# Altium footprint library KF2EDGK.PcbLib: 86 footprints (part 4 of 6)
Each footprint in its own frame and in the unit in brackets; x right, y up, seen from the top. Pads: shape width x height; smd on the part's side, far side on the other; paste and mask are expansions set on the pad; w line width, h text height; cw(c..) or ccw(c..) is an arc to the next point about the centre after c.
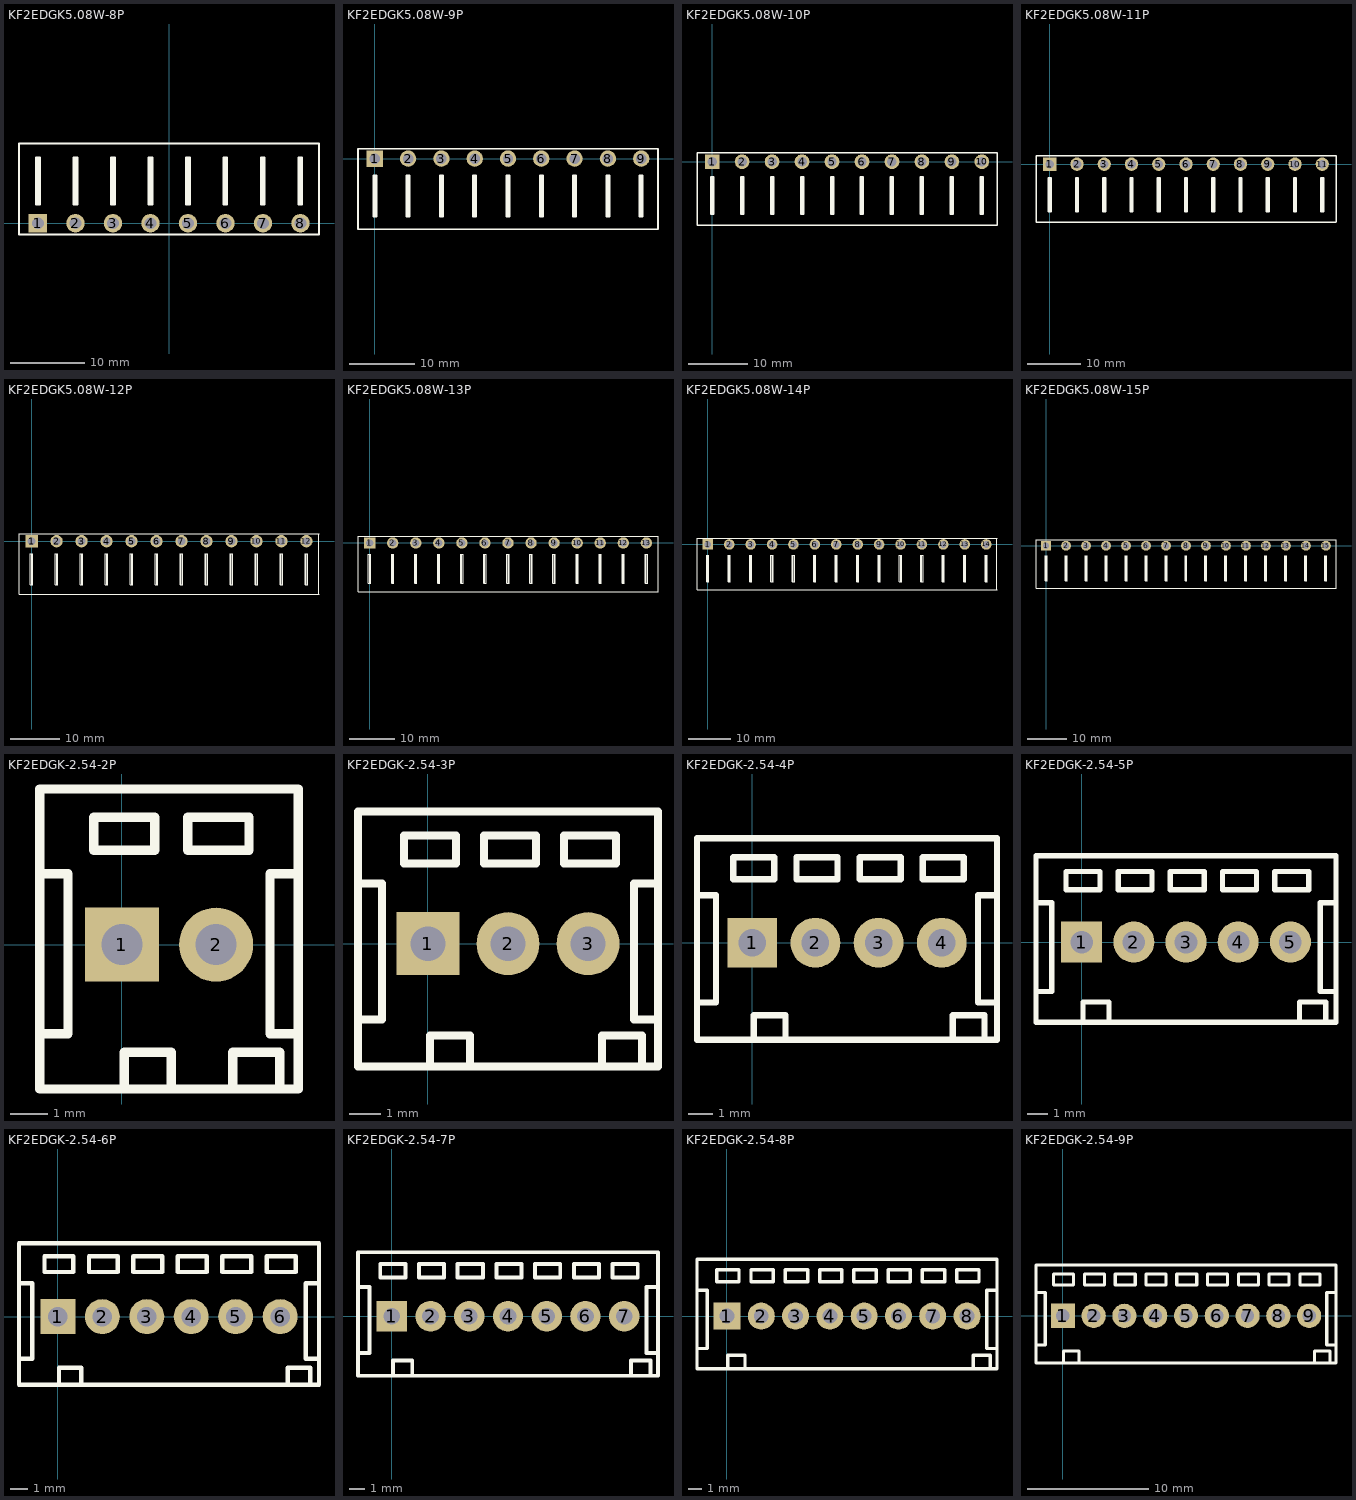
[diagram p3: the footprints below, top view; thin cyan lines are the x and y axes]

## KF2EDGK5.08W-8P [mm]
pads (8):
  rect 2.5x2.5 hole 1.6: 1(-17.78,0)
  round 2.5 hole 1.6: 2(-12.7,0) 3(-7.62,0) 4(-2.54,0) 5(2.54,0) 6(7.62,0) 7(12.7,0) 8(17.78,0)
Top Overlay:
  lines w0.254: -17.78,2.54 -17.78,8.89 ; -12.7,2.54 -12.7,8.89 ; -7.62,2.54 -7.62,8.89 ; -2.54,2.54 -2.54,8.89 ; 2.54,2.54 2.54,8.89 ; 7.62,2.54 7.62,8.89 ; 12.7,2.54 12.7,8.89 ; 17.78,2.54 17.78,8.89 ; -17.78,8.89 -17.526,8.89 -17.526,2.54 -18.034,2.54 -18.034,8.89 -17.78,8.89 ; -12.7,8.89 -12.954,8.89 -12.954,2.54 -12.446,2.54 -12.446,8.89 -12.7,8.89 ; -7.62,8.89 -7.874,8.89 -7.874,2.54 -7.366,2.54 -7.366,8.89 -7.62,8.89 ; -2.54,8.89 -2.794,8.89 -2.794,2.54 -2.286,2.54 -2.286,8.89 -2.54,8.89 ; 2.54,8.89 2.286,8.89 2.286,2.54 2.794,2.54 2.794,8.89 2.54,8.89 ; 7.62,8.89 7.366,8.89 7.366,2.54 7.874,2.54 7.874,8.89 7.62,8.89 ; 12.7,8.89 12.446,8.89 12.446,2.54 12.954,2.54 12.954,8.89 12.7,8.89 ; 17.78,8.89 17.526,8.89 17.526,2.54 18.034,2.54 18.034,8.89 17.78,8.89 ; -20.345,-1.524 20.295,-1.524 20.295,10.795 -20.345,10.795 -20.345,-1.524
3D body "KF2EDGK5.08-WI.STEP": height 8.5, standoff -3, extent 0,-0.57 5.08,10.73
3D body "KF2EDGK5.08-WI.STEP": height 8.5, standoff -3, extent 5.08,-0.57 10.16,10.73
3D body "KF2EDGK5.08-WI.STEP": height 8.5, standoff -3, extent 10.16,-0.57 15.24,10.73
3D body "KF2EDGK5.08-WI.STEP": height 8.5, standoff -3, extent 15.24,-0.57 20.32,10.73
3D body "KF2EDGK5.08-WI.STEP": height 8.5, standoff -3, extent -20.32,-0.57 -15.24,10.73
3D body "KF2EDGK5.08-WI.STEP": height 8.5, standoff -3, extent -15.24,-0.57 -10.16,10.73
3D body "KF2EDGK5.08-WI.STEP": height 8.5, standoff -3, extent -10.16,-0.57 -5.08,10.73
3D body "KF2EDGK5.08-WI.STEP": height 8.5, standoff -3, extent -5.08,-0.57 0,10.73

## KF2EDGK5.08W-9P [mm]
pads (9):
  rect 2.5x2.5 hole 1.6: 1(0,0)
  round 2.5 hole 1.6: 2(5.08,0) 3(10.16,0) 4(15.24,0) 5(20.32,0) 6(25.4,0) 7(30.48,0) 8(35.56,0) 9(40.64,0)
Top Overlay:
  lines w0.254: 0,-2.54 0,-8.89 ; 5.08,-2.54 5.08,-8.89 ; 10.16,-2.54 10.16,-8.89 ; 15.24,-2.54 15.24,-8.89 ; 20.32,-2.54 20.32,-8.89 ; 25.4,-2.54 25.4,-8.89 ; 30.48,-2.54 30.48,-8.89 ; 35.56,-2.54 35.56,-8.89 ; 40.64,-2.54 40.64,-8.89 ; 0,-8.89 -0.254,-8.89 -0.254,-2.54 0.254,-2.54 0.254,-8.89 0,-8.89 ; 5.08,-8.89 5.334,-8.89 5.334,-2.54 4.826,-2.54 4.826,-8.89 5.08,-8.89 ; 10.16,-8.89 10.414,-8.89 10.414,-2.54 9.906,-2.54 9.906,-8.89 10.16,-8.89 ; 15.24,-8.89 15.494,-8.89 15.494,-2.54 14.986,-2.54 14.986,-8.89 15.24,-8.89 ; 20.32,-8.89 20.574,-8.89 20.574,-2.54 20.066,-2.54 20.066,-8.89 20.32,-8.89 ; 25.4,-8.89 25.654,-8.89 25.654,-2.54 25.146,-2.54 25.146,-8.89 25.4,-8.89 ; 30.48,-8.89 30.734,-8.89 30.734,-2.54 30.226,-2.54 30.226,-8.89 30.48,-8.89 ; 35.56,-8.89 35.814,-8.89 35.814,-2.54 35.306,-2.54 35.306,-8.89 35.56,-8.89 ; 40.64,-8.89 40.386,-8.89 40.386,-2.54 40.894,-2.54 40.894,-8.89 40.64,-8.89 ; -2.565,-10.795 -2.565,1.524 43.205,1.524 43.205,-10.795 -2.565,-10.795
3D body "KF2EDGK5.08-WI.STEP": height 8.5, standoff -3, extent -2.54,-10.792 2.54,0.508
3D body "KF2EDGK5.08-WI.STEP": height 8.5, standoff -3, extent 2.54,-10.792 7.62,0.508
3D body "KF2EDGK5.08-WI.STEP": height 8.5, standoff -3, extent 7.62,-10.792 12.7,0.508
3D body "KF2EDGK5.08-WI.STEP": height 8.5, standoff -3, extent 22.86,-10.792 27.94,0.508
3D body "KF2EDGK5.08-WI.STEP": height 8.5, standoff -3, extent 17.78,-10.792 22.86,0.508
3D body "KF2EDGK5.08-WI.STEP": height 8.5, standoff -3, extent 12.7,-10.792 17.78,0.508
3D body "KF2EDGK5.08-WI.STEP": height 8.5, standoff -3, extent 38.1,-10.792 43.18,0.508
3D body "KF2EDGK5.08-WI.STEP": height 8.5, standoff -3, extent 33.02,-10.792 38.1,0.508
3D body "KF2EDGK5.08-WI.STEP": height 8.5, standoff -3, extent 27.94,-10.792 33.02,0.508

## KF2EDGK5.08W-10P [mm]
pads (10):
  rect 2.5x2.5 hole 1.6: 1(0,0)
  round 2.5 hole 1.6: 2(5.08,0) 3(10.16,0) 4(15.24,0) 5(20.32,0) 6(25.4,0) 7(30.48,0) 8(35.56,0) 9(40.64,0) 10(45.72,0)
Top Overlay:
  lines w0.254: 0,-2.54 0,-8.89 ; 5.08,-2.54 5.08,-8.89 ; 10.16,-2.54 10.16,-8.89 ; 15.24,-2.54 15.24,-8.89 ; 20.32,-2.54 20.32,-8.89 ; 25.4,-2.54 25.4,-8.89 ; 30.48,-2.54 30.48,-8.89 ; 35.56,-2.54 35.56,-8.89 ; 40.64,-2.54 40.64,-8.89 ; 43.185,-10.795 48.285,-10.795 48.285,1.524 43.205,1.524 -2.565,1.524 -2.565,-10.795 43.205,-10.795 ; 45.72,-2.54 45.72,-8.89 ; 0,-8.89 0.254,-8.89 0.254,-2.54 -0.254,-2.54 -0.254,-8.89 0,-8.89 ; 5.08,-8.89 4.826,-8.89 4.826,-2.54 5.334,-2.54 5.334,-8.89 5.08,-8.89 ; 10.16,-8.89 9.906,-8.89 9.906,-2.54 10.414,-2.54 10.414,-8.89 10.16,-8.89 ; 15.24,-8.89 14.986,-8.89 14.986,-2.54 15.494,-2.54 15.494,-8.89 15.24,-8.89 ; 20.32,-8.89 20.066,-8.89 20.066,-2.54 20.574,-2.54 20.574,-8.89 20.32,-8.89 ; 25.4,-8.89 25.146,-8.89 25.146,-2.54 25.654,-2.54 25.654,-8.89 25.4,-8.89 ; 30.48,-8.89 30.226,-8.89 30.226,-2.54 30.734,-2.54 30.734,-8.89 30.48,-8.89 ; 35.56,-8.89 35.306,-8.89 35.306,-2.54 35.814,-2.54 35.814,-8.89 35.56,-8.89 ; 40.64,-8.89 40.894,-8.89 40.894,-2.54 40.386,-2.54 40.386,-8.89 40.64,-8.89 ; 45.72,-8.89 45.466,-8.89 45.466,-2.54 45.974,-2.54 45.974,-8.89 45.72,-8.89
3D body "KF2EDGK5.08-WI.STEP": height 8.5, standoff -3, extent 7.62,-10.792 12.7,0.508
3D body "KF2EDGK5.08-WI.STEP": height 8.5, standoff -3, extent 2.54,-10.792 7.62,0.508
3D body "KF2EDGK5.08-WI.STEP": height 8.5, standoff -3, extent -2.54,-10.792 2.54,0.508
3D body "KF2EDGK5.08-WI.STEP": height 8.5, standoff -3, extent 22.86,-10.792 27.94,0.508
3D body "KF2EDGK5.08-WI.STEP": height 8.5, standoff -3, extent 17.78,-10.792 22.86,0.508
3D body "KF2EDGK5.08-WI.STEP": height 8.5, standoff -3, extent 12.7,-10.792 17.78,0.508
3D body "KF2EDGK5.08-WI.STEP": height 8.5, standoff -3, extent 38.1,-10.792 43.18,0.508
3D body "KF2EDGK5.08-WI.STEP": height 8.5, standoff -3, extent 33.02,-10.792 38.1,0.508
3D body "KF2EDGK5.08-WI.STEP": height 8.5, standoff -3, extent 27.94,-10.792 33.02,0.508
3D body "KF2EDGK5.08-WI.STEP": height 8.5, standoff -3, extent 43.18,-10.792 48.26,0.508

## KF2EDGK5.08W-11P [mm]
pads (11):
  rect 2.5x2.5 hole 1.6: 1(0,0)
  round 2.5 hole 1.6: 2(5.08,0) 3(10.16,0) 4(15.24,0) 5(20.32,0) 6(25.4,0) 7(30.48,0) 8(35.56,0) 9(40.64,0) 10(45.72,0) 11(50.8,0)
Top Overlay:
  lines w0.254: 0,-2.54 0,-8.89 ; 5.08,-2.54 5.08,-8.89 ; 10.16,-2.54 10.16,-8.89 ; 15.24,-2.54 15.24,-8.89 ; 20.32,-2.54 20.32,-8.89 ; 25.4,-2.54 25.4,-8.89 ; 30.48,-2.54 30.48,-8.89 ; 35.56,-2.54 35.56,-8.89 ; 40.64,-2.54 40.64,-8.89 ; 43.185,-10.795 48.285,-10.795 ; 43.205,-10.795 -2.565,-10.795 -2.565,1.524 43.205,1.524 48.285,1.524 53.365,1.524 53.365,-10.775 ; 45.72,-2.54 45.72,-8.89 ; 48.265,-10.795 53.365,-10.795 ; 50.8,-2.54 50.8,-8.89 ; 0,-8.89 -0.254,-8.89 -0.254,-2.54 0.254,-2.54 0.254,-8.89 0,-8.89 ; 5.08,-8.89 5.334,-8.89 5.334,-2.54 4.826,-2.54 4.826,-8.89 5.08,-8.89 ; 10.16,-8.89 10.414,-8.89 10.414,-2.54 9.906,-2.54 9.906,-8.89 10.16,-8.89 ; 15.24,-8.89 15.494,-8.89 15.494,-2.54 14.986,-2.54 14.986,-8.89 15.24,-8.89 ; 20.32,-8.89 20.574,-8.89 20.574,-2.54 20.066,-2.54 20.066,-8.89 20.32,-8.89 ; 25.4,-8.89 25.654,-8.89 25.654,-2.54 25.146,-2.54 25.146,-8.89 25.4,-8.89 ; 30.48,-8.89 30.734,-8.89 30.734,-2.54 30.226,-2.54 30.226,-8.89 30.48,-8.89 ; 35.56,-8.89 35.814,-8.89 35.814,-2.54 35.306,-2.54 35.306,-8.89 35.56,-8.89 ; 40.64,-8.89 40.386,-8.89 40.386,-2.54 40.894,-2.54 40.894,-8.89 40.64,-8.89 ; 45.72,-8.89 45.974,-8.89 45.974,-2.54 45.466,-2.54 45.466,-8.89 45.72,-8.89 ; 50.8,-8.89 50.546,-8.89 50.546,-2.54 51.054,-2.54 51.054,-8.89 50.8,-8.89
Mechanical 15:
  circle w0.05: c25.4,0 r0.35
  lines w0.05: 24.9,0 25.9,0 ; 25.4,-0.5 25.4,0.5
3D body "KF2EDGK5.08-WI.STEP": height 8.5, standoff -3, extent 48.26,-10.792 53.34,0.508
3D body "KF2EDGK5.08-WI.STEP": height 8.5, standoff -3, extent 43.18,-10.792 48.26,0.508
3D body "KF2EDGK5.08-WI.STEP": height 8.5, standoff -3, extent 27.94,-10.792 33.02,0.508
3D body "KF2EDGK5.08-WI.STEP": height 8.5, standoff -3, extent 33.02,-10.792 38.1,0.508
3D body "KF2EDGK5.08-WI.STEP": height 8.5, standoff -3, extent 38.1,-10.792 43.18,0.508
3D body "KF2EDGK5.08-WI.STEP": height 8.5, standoff -3, extent 12.7,-10.792 17.78,0.508
3D body "KF2EDGK5.08-WI.STEP": height 8.5, standoff -3, extent 17.78,-10.792 22.86,0.508
3D body "KF2EDGK5.08-WI.STEP": height 8.5, standoff -3, extent 22.86,-10.792 27.94,0.508
3D body "KF2EDGK5.08-WI.STEP": height 8.5, standoff -3, extent -2.54,-10.792 2.54,0.508
3D body "KF2EDGK5.08-WI.STEP": height 8.5, standoff -3, extent 2.54,-10.792 7.62,0.508
3D body "KF2EDGK5.08-WI.STEP": height 8.5, standoff -3, extent 7.62,-10.792 12.7,0.508

## KF2EDGK5.08W-12P [mm]
pads (12):
  rect 2.5x2.5 hole 1.6: 1(0,0)
  round 2.5 hole 1.6: 2(5.08,0) 3(10.16,0) 4(15.24,0) 5(20.32,0) 6(25.4,0) 7(30.48,0) 8(35.56,0) 9(40.64,0) 10(45.72,0) 11(50.8,0) 12(55.88,0)
Top Overlay:
  lines w0.254: 0,-2.54 0,-8.89 ; 5.08,-2.54 5.08,-8.89 ; 10.16,-2.54 10.16,-8.89 ; 15.24,-2.54 15.24,-8.89 ; 20.32,-2.54 20.32,-8.89 ; 25.4,-2.54 25.4,-8.89 ; 30.48,-2.54 30.48,-8.89 ; 35.56,-2.54 35.56,-8.89 ; 40.64,-2.54 40.64,-8.89 ; 43.185,-10.795 48.285,-10.795 ; 43.205,-10.795 -2.565,-10.795 -2.565,1.524 43.205,1.524 48.285,1.524 53.365,1.524 58.445,1.524 ; 45.72,-2.54 45.72,-8.89 ; 48.265,-10.795 53.365,-10.795 ; 50.8,-2.54 50.8,-8.89 ; 53.345,-10.795 58.445,-10.795 ; 55.88,-2.54 55.88,-8.89 ; 58.42,-10.8 58.42,1.524 ; 0,-8.89 -0.254,-8.89 -0.254,-2.54 0.254,-2.54 0.254,-8.89 0,-8.89 ; 5.08,-8.89 5.334,-8.89 5.334,-2.54 4.826,-2.54 4.826,-8.89 5.08,-8.89 ; 10.16,-8.89 10.414,-8.89 10.414,-2.54 9.906,-2.54 9.906,-8.89 10.16,-8.89 ; 15.24,-8.89 15.494,-8.89 15.494,-2.54 14.986,-2.54 14.986,-8.89 15.24,-8.89 ; 20.32,-8.89 20.574,-8.89 20.574,-2.54 20.066,-2.54 20.066,-8.89 20.32,-8.89 ; 25.4,-8.89 25.654,-8.89 25.654,-2.54 25.146,-2.54 25.146,-8.89 25.4,-8.89 ; 30.48,-8.89 30.734,-8.89 30.734,-2.54 30.226,-2.54 30.226,-8.89 30.48,-8.89 ; 35.56,-8.89 35.814,-8.89 35.814,-2.54 35.306,-2.54 35.306,-8.89 35.56,-8.89 ; 40.64,-8.89 40.386,-8.89 40.386,-2.54 40.894,-2.54 40.894,-8.89 40.64,-8.89 ; 45.72,-8.89 45.974,-8.89 45.974,-2.54 45.466,-2.54 45.466,-8.89 45.72,-8.89 ; 50.8,-8.89 50.546,-8.89 50.546,-2.54 51.054,-2.54 51.054,-8.89 50.8,-8.89 ; 55.88,-8.89 55.626,-8.89 55.626,-2.54 56.134,-2.54 56.134,-8.89 55.88,-8.89
3D body "KF2EDGK5.08-WI.STEP": height 8.5, standoff -3, extent 53.34,-10.792 58.42,0.508
3D body "KF2EDGK5.08-WI.STEP": height 8.5, standoff -3, extent 48.26,-10.792 53.34,0.508
3D body "KF2EDGK5.08-WI.STEP": height 8.5, standoff -3, extent 43.18,-10.792 48.26,0.508
3D body "KF2EDGK5.08-WI.STEP": height 8.5, standoff -3, extent 27.94,-10.792 33.02,0.508
3D body "KF2EDGK5.08-WI.STEP": height 8.5, standoff -3, extent 33.02,-10.792 38.1,0.508
3D body "KF2EDGK5.08-WI.STEP": height 8.5, standoff -3, extent 38.1,-10.792 43.18,0.508
3D body "KF2EDGK5.08-WI.STEP": height 8.5, standoff -3, extent 12.7,-10.792 17.78,0.508
3D body "KF2EDGK5.08-WI.STEP": height 8.5, standoff -3, extent 17.78,-10.792 22.86,0.508
3D body "KF2EDGK5.08-WI.STEP": height 8.5, standoff -3, extent 22.86,-10.792 27.94,0.508
3D body "KF2EDGK5.08-WI.STEP": height 8.5, standoff -3, extent -2.54,-10.792 2.54,0.508
3D body "KF2EDGK5.08-WI.STEP": height 8.5, standoff -3, extent 2.54,-10.792 7.62,0.508
3D body "KF2EDGK5.08-WI.STEP": height 8.5, standoff -3, extent 7.62,-10.792 12.7,0.508

## KF2EDGK5.08W-13P [mm]
pads (13):
  rect 2.5x2.5 hole 1.6: 1(0,0)
  round 2.5 hole 1.6: 2(5.08,0) 3(10.16,0) 4(15.24,0) 5(20.32,0) 6(25.4,0) 7(30.48,0) 8(35.56,0) 9(40.64,0) 10(45.72,0) 11(50.8,0) 12(55.88,0) 13(60.96,0)
Top Overlay:
  lines w0.254: 0,-2.54 0,-8.89 ; 5.08,-2.54 5.08,-8.89 ; 10.16,-2.54 10.16,-8.89 ; 15.24,-2.54 15.24,-8.89 ; 20.32,-2.54 20.32,-8.89 ; 25.4,-2.54 25.4,-8.89 ; 30.48,-2.54 30.48,-8.89 ; 35.56,-2.54 35.56,-8.89 ; 40.64,-2.54 40.64,-8.89 ; 43.185,-10.795 48.285,-10.795 ; 43.205,-10.795 -2.565,-10.795 -2.565,1.524 43.205,1.524 48.285,1.524 53.365,1.524 58.445,1.524 63.525,1.524 63.525,-10.775 ; 45.72,-2.54 45.72,-8.89 ; 48.265,-10.795 53.365,-10.795 ; 50.8,-2.54 50.8,-8.89 ; 53.345,-10.795 58.445,-10.795 ; 55.88,-2.54 55.88,-8.89 ; 58.425,-10.795 63.525,-10.795 ; 60.96,-2.54 60.96,-8.89 ; 0,-8.89 0.254,-8.89 0.254,-2.54 -0.254,-2.54 -0.254,-8.89 0,-8.89 ; 5.08,-8.89 4.826,-8.89 4.826,-2.54 5.334,-2.54 5.334,-8.89 5.08,-8.89 ; 10.16,-8.89 9.906,-8.89 9.906,-2.54 10.414,-2.54 10.414,-8.89 10.16,-8.89 ; 15.24,-8.89 14.986,-8.89 14.986,-2.54 15.494,-2.54 15.494,-8.89 15.24,-8.89 ; 20.32,-8.89 20.066,-8.89 20.066,-2.54 20.574,-2.54 20.574,-8.89 20.32,-8.89 ; 25.4,-8.89 25.146,-8.89 25.146,-2.54 25.654,-2.54 25.654,-8.89 25.4,-8.89 ; 30.48,-8.89 30.226,-8.89 30.226,-2.54 30.734,-2.54 30.734,-8.89 30.48,-8.89 ; 35.56,-8.89 35.306,-8.89 35.306,-2.54 35.814,-2.54 35.814,-8.89 35.56,-8.89 ; 40.64,-8.89 40.894,-8.89 40.894,-2.54 40.386,-2.54 40.386,-8.89 40.64,-8.89 ; 45.72,-8.89 45.466,-8.89 45.466,-2.54 45.974,-2.54 45.974,-8.89 45.72,-8.89 ; 50.8,-8.89 51.054,-8.89 51.054,-2.54 50.546,-2.54 50.546,-8.89 50.8,-8.89 ; 55.88,-8.89 56.134,-8.89 56.134,-2.54 55.626,-2.54 55.626,-8.89 55.88,-8.89 ; 60.96,-8.89 61.214,-8.89 61.214,-2.54 60.706,-2.54 60.706,-8.89 60.96,-8.89
3D body "KF2EDGK5.08-WI.STEP": height 8.5, standoff -3, extent 7.62,-10.792 12.7,0.508
3D body "KF2EDGK5.08-WI.STEP": height 8.5, standoff -3, extent 2.54,-10.792 7.62,0.508
3D body "KF2EDGK5.08-WI.STEP": height 8.5, standoff -3, extent -2.54,-10.792 2.54,0.508
3D body "KF2EDGK5.08-WI.STEP": height 8.5, standoff -3, extent 22.86,-10.792 27.94,0.508
3D body "KF2EDGK5.08-WI.STEP": height 8.5, standoff -3, extent 17.78,-10.792 22.86,0.508
3D body "KF2EDGK5.08-WI.STEP": height 8.5, standoff -3, extent 12.7,-10.792 17.78,0.508
3D body "KF2EDGK5.08-WI.STEP": height 8.5, standoff -3, extent 38.1,-10.792 43.18,0.508
3D body "KF2EDGK5.08-WI.STEP": height 8.5, standoff -3, extent 33.02,-10.792 38.1,0.508
3D body "KF2EDGK5.08-WI.STEP": height 8.5, standoff -3, extent 27.94,-10.792 33.02,0.508
3D body "KF2EDGK5.08-WI.STEP": height 8.5, standoff -3, extent 43.18,-10.792 48.26,0.508
3D body "KF2EDGK5.08-WI.STEP": height 8.5, standoff -3, extent 48.26,-10.792 53.34,0.508
3D body "KF2EDGK5.08-WI.STEP": height 8.5, standoff -3, extent 58.42,-10.792 63.5,0.508
3D body "KF2EDGK5.08-WI.STEP": height 8.5, standoff -3, extent 53.34,-10.792 58.42,0.508

## KF2EDGK5.08W-14P [mm]
pads (14):
  rect 2.5x2.5 hole 1.6: 1(0,0)
  round 2.5 hole 1.6: 2(5.08,0) 3(10.16,0) 4(15.24,0) 5(20.32,0) 6(25.4,0) 7(30.48,0) 8(35.56,0) 9(40.64,0) 10(45.72,0) 11(50.8,0) 12(55.88,0) 13(60.96,0) 14(66.04,0)
Top Overlay:
  lines w0.254: 0,-2.54 0,-8.89 ; 5.08,-2.54 5.08,-8.89 ; 10.16,-2.54 10.16,-8.89 ; 15.24,-2.54 15.24,-8.89 ; 20.32,-2.54 20.32,-8.89 ; 25.4,-2.54 25.4,-8.89 ; 30.48,-2.54 30.48,-8.89 ; 35.56,-2.54 35.56,-8.89 ; 40.64,-2.54 40.64,-8.89 ; 43.185,-10.795 48.285,-10.795 ; 43.205,-10.795 -2.565,-10.795 -2.565,1.524 43.205,1.524 48.285,1.524 53.365,1.524 58.445,1.524 63.525,1.524 68.605,1.524 ; 45.72,-2.54 45.72,-8.89 ; 48.265,-10.795 53.365,-10.795 ; 50.8,-2.54 50.8,-8.89 ; 53.345,-10.795 58.445,-10.795 ; 55.88,-2.54 55.88,-8.89 ; 58.425,-10.795 63.525,-10.795 ; 60.96,-2.54 60.96,-8.89 ; 63.505,-10.795 68.605,-10.795 ; 66.04,-2.54 66.04,-8.89 ; 68.58,-10.77 68.58,1.524 ; 0,-8.89 0.254,-8.89 0.254,-2.54 -0.254,-2.54 -0.254,-8.89 0,-8.89 ; 5.08,-8.89 4.826,-8.89 4.826,-2.54 5.334,-2.54 5.334,-8.89 5.08,-8.89 ; 10.16,-8.89 9.906,-8.89 9.906,-2.54 10.414,-2.54 10.414,-8.89 10.16,-8.89 ; 15.24,-8.89 14.986,-8.89 14.986,-2.54 15.494,-2.54 15.494,-8.89 15.24,-8.89 ; 20.32,-8.89 20.066,-8.89 20.066,-2.54 20.574,-2.54 20.574,-8.89 20.32,-8.89 ; 25.4,-8.89 25.146,-8.89 25.146,-2.54 25.654,-2.54 25.654,-8.89 25.4,-8.89 ; 30.48,-8.89 30.226,-8.89 30.226,-2.54 30.734,-2.54 30.734,-8.89 30.48,-8.89 ; 35.56,-8.89 35.306,-8.89 35.306,-2.54 35.814,-2.54 35.814,-8.89 35.56,-8.89 ; 40.64,-8.89 40.894,-8.89 40.894,-2.54 40.386,-2.54 40.386,-8.89 40.64,-8.89 ; 45.72,-8.89 45.466,-8.89 45.466,-2.54 45.974,-2.54 45.974,-8.89 45.72,-8.89 ; 50.8,-8.89 51.054,-8.89 51.054,-2.54 50.546,-2.54 50.546,-8.89 50.8,-8.89 ; 55.88,-8.89 56.134,-8.89 56.134,-2.54 55.626,-2.54 55.626,-8.89 55.88,-8.89 ; 60.96,-8.89 61.214,-8.89 61.214,-2.54 60.706,-2.54 60.706,-8.89 60.96,-8.89 ; 66.04,-8.89 66.294,-8.89 66.294,-2.54 65.786,-2.54 65.786,-8.89 66.04,-8.89
3D body "KF2EDGK5.08-WI.STEP": height 8.5, standoff -3, extent 53.34,-10.792 58.42,0.508
3D body "KF2EDGK5.08-WI.STEP": height 8.5, standoff -3, extent 58.42,-10.792 63.5,0.508
3D body "KF2EDGK5.08-WI.STEP": height 8.5, standoff -3, extent 63.5,-10.792 68.58,0.508
3D body "KF2EDGK5.08-WI.STEP": height 8.5, standoff -3, extent 48.26,-10.792 53.34,0.508
3D body "KF2EDGK5.08-WI.STEP": height 8.5, standoff -3, extent 43.18,-10.792 48.26,0.508
3D body "KF2EDGK5.08-WI.STEP": height 8.5, standoff -3, extent 27.94,-10.792 33.02,0.508
3D body "KF2EDGK5.08-WI.STEP": height 8.5, standoff -3, extent 33.02,-10.792 38.1,0.508
3D body "KF2EDGK5.08-WI.STEP": height 8.5, standoff -3, extent 38.1,-10.792 43.18,0.508
3D body "KF2EDGK5.08-WI.STEP": height 8.5, standoff -3, extent 12.7,-10.792 17.78,0.508
3D body "KF2EDGK5.08-WI.STEP": height 8.5, standoff -3, extent 17.78,-10.792 22.86,0.508
3D body "KF2EDGK5.08-WI.STEP": height 8.5, standoff -3, extent 22.86,-10.792 27.94,0.508
3D body "KF2EDGK5.08-WI.STEP": height 8.5, standoff -3, extent -2.54,-10.792 2.54,0.508
3D body "KF2EDGK5.08-WI.STEP": height 8.5, standoff -3, extent 2.54,-10.792 7.62,0.508
3D body "KF2EDGK5.08-WI.STEP": height 8.5, standoff -3, extent 7.62,-10.792 12.7,0.508

## KF2EDGK5.08W-15P [mm]
pads (15):
  rect 2.5x2.5 hole 1.6: 1(0,0)
  round 2.5 hole 1.6: 2(5.08,0) 3(10.16,0) 4(15.24,0) 5(20.32,0) 6(25.4,0) 7(30.48,0) 8(35.56,0) 9(40.64,0) 10(45.72,0) 11(50.8,0) 12(55.88,0) 13(60.96,0) 14(66.04,0) 15(71.12,0)
Top Overlay:
  lines w0.254: 0,-2.54 0,-8.89 ; 5.08,-2.54 5.08,-8.89 ; 10.16,-2.54 10.16,-8.89 ; 15.24,-2.54 15.24,-8.89 ; 20.32,-2.54 20.32,-8.89 ; 25.4,-2.54 25.4,-8.89 ; 30.48,-2.54 30.48,-8.89 ; 35.56,-2.54 35.56,-8.89 ; 40.64,-2.54 40.64,-8.89 ; 43.185,-10.795 48.285,-10.795 ; 43.205,-10.795 -2.565,-10.795 -2.565,1.524 43.205,1.524 48.285,1.524 53.365,1.524 58.445,1.524 63.525,1.524 68.605,1.524 73.685,1.524 73.685,-10.775 ; 45.72,-2.54 45.72,-8.89 ; 48.265,-10.795 53.365,-10.795 ; 50.8,-2.54 50.8,-8.89 ; 53.345,-10.795 58.445,-10.795 ; 55.88,-2.54 55.88,-8.89 ; 58.425,-10.795 63.525,-10.795 ; 60.96,-2.54 60.96,-8.89 ; 63.505,-10.795 68.605,-10.795 ; 66.04,-2.54 66.04,-8.89 ; 68.585,-10.795 73.685,-10.795 ; 71.12,-2.54 71.12,-8.89 ; 0,-8.89 0.254,-8.89 0.254,-2.54 -0.254,-2.54 -0.254,-8.89 0,-8.89 ; 5.08,-8.89 4.826,-8.89 4.826,-2.54 5.334,-2.54 5.334,-8.89 5.08,-8.89 ; 10.16,-8.89 9.906,-8.89 9.906,-2.54 10.414,-2.54 10.414,-8.89 10.16,-8.89 ; 15.24,-8.89 14.986,-8.89 14.986,-2.54 15.494,-2.54 15.494,-8.89 15.24,-8.89 ; 20.32,-8.89 20.066,-8.89 20.066,-2.54 20.574,-2.54 20.574,-8.89 20.32,-8.89 ; 25.4,-8.89 25.146,-8.89 25.146,-2.54 25.654,-2.54 25.654,-8.89 25.4,-8.89 ; 30.48,-8.89 30.226,-8.89 30.226,-2.54 30.734,-2.54 30.734,-8.89 30.48,-8.89 ; 35.56,-8.89 35.306,-8.89 35.306,-2.54 35.814,-2.54 35.814,-8.89 35.56,-8.89 ; 40.64,-8.89 40.894,-8.89 40.894,-2.54 40.386,-2.54 40.386,-8.89 40.64,-8.89 ; 45.72,-8.89 45.466,-8.89 45.466,-2.54 45.974,-2.54 45.974,-8.89 45.72,-8.89 ; 50.8,-8.89 51.054,-8.89 51.054,-2.54 50.546,-2.54 50.546,-8.89 50.8,-8.89 ; 55.88,-8.89 56.134,-8.89 56.134,-2.54 55.626,-2.54 55.626,-8.89 55.88,-8.89 ; 60.96,-8.89 61.214,-8.89 61.214,-2.54 60.706,-2.54 60.706,-8.89 60.96,-8.89 ; 66.04,-8.89 66.294,-8.89 66.294,-2.54 65.786,-2.54 65.786,-8.89 66.04,-8.89 ; 71.12,-8.89 71.374,-8.89 71.374,-2.54 70.866,-2.54 70.866,-8.89 71.12,-8.89
3D body "KF2EDGK5.08-WI.STEP": height 8.5, standoff -3, extent 68.58,-10.792 73.66,0.508
3D body "KF2EDGK5.08-WI.STEP": height 8.5, standoff -3, extent 53.34,-10.792 58.42,0.508
3D body "KF2EDGK5.08-WI.STEP": height 8.5, standoff -3, extent 58.42,-10.792 63.5,0.508
3D body "KF2EDGK5.08-WI.STEP": height 8.5, standoff -3, extent 63.5,-10.792 68.58,0.508
3D body "KF2EDGK5.08-WI.STEP": height 8.5, standoff -3, extent 48.26,-10.792 53.34,0.508
3D body "KF2EDGK5.08-WI.STEP": height 8.5, standoff -3, extent 7.62,-10.792 12.7,0.508
3D body "KF2EDGK5.08-WI.STEP": height 8.5, standoff -3, extent 2.54,-10.792 7.62,0.508
3D body "KF2EDGK5.08-WI.STEP": height 8.5, standoff -3, extent -2.54,-10.792 2.54,0.508
3D body "KF2EDGK5.08-WI.STEP": height 8.5, standoff -3, extent 22.86,-10.792 27.94,0.508
3D body "KF2EDGK5.08-WI.STEP": height 8.5, standoff -3, extent 17.78,-10.792 22.86,0.508
3D body "KF2EDGK5.08-WI.STEP": height 8.5, standoff -3, extent 12.7,-10.792 17.78,0.508
3D body "KF2EDGK5.08-WI.STEP": height 8.5, standoff -3, extent 38.1,-10.792 43.18,0.508
3D body "KF2EDGK5.08-WI.STEP": height 8.5, standoff -3, extent 33.02,-10.792 38.1,0.508
3D body "KF2EDGK5.08-WI.STEP": height 8.5, standoff -3, extent 27.94,-10.792 33.02,0.508
3D body "KF2EDGK5.08-WI.STEP": height 8.5, standoff -3, extent 43.18,-10.792 48.26,0.508

## KF2EDGK-2.54-2P [mm]
pads (2):
  rect 2x2 hole 1.1: 1(0,0)
  round 2 hole 1.1: 2(2.54,0)
Top Overlay:
  lines w0.254: 0.066,-3.839 0.066,-2.912 1.336,-2.912 1.336,-3.839 ; 2.987,-3.839 2.987,-2.912 4.257,-2.912 4.257,-3.839 ; 4.76,-2.404 3.998,-2.404 3.998,1.914 4.76,1.914 ; -2.22,-2.404 -2.22,-3.9 4.76,-3.9 4.76,1.914 ; -2.22,-2.404 -1.458,-2.404 -1.458,1.914 -2.22,1.914 ; -2.22,-2.404 -2.22,1.914 ; -2.22,1.914 -2.22,4.2 4.76,4.2 4.76,1.914 ; -0.762,2.549 0.889,2.549 0.889,3.438 -0.762,3.438 -0.762,2.549 ; 1.778,2.549 1.778,3.438 3.429,3.438 3.429,2.549 1.778,2.549
3D body "KF2EDGK-2.54-2P.STEP": height 10.15, standoff -3.15, extent -2.22,-3.912 4.76,4.188

## KF2EDGK-2.54-3P [mm]
pads (3):
  rect 2x2 hole 1.1: 1(0,0)
  round 2 hole 1.1: 2(2.54,0) 3(5.08,0)
Top Overlay:
  lines w0.254: 0.066,-3.839 0.066,-2.912 1.336,-2.912 1.336,-3.839 ; 5.527,-3.839 5.527,-2.912 6.797,-2.912 6.797,-3.839 ; 7.3,-2.404 6.538,-2.404 6.538,1.914 7.3,1.914 ; -2.22,-2.404 -2.22,1.914 ; -2.22,-2.404 -1.458,-2.404 -1.458,1.914 -2.22,1.914 ; -2.22,-2.404 -2.22,-3.9 7.3,-3.9 7.3,1.914 ; -2.22,1.914 -2.22,4.2 7.3,4.2 7.3,1.914 ; -0.762,2.549 0.889,2.549 0.889,3.438 -0.762,3.438 -0.762,2.549 ; 1.778,2.549 3.429,2.549 3.429,3.438 1.778,3.438 1.778,2.549 ; 4.318,2.549 5.969,2.549 5.969,3.438 4.318,3.438 4.318,2.549
3D body "KF2EDGK-2.54-3P.STEP": height 10.15, standoff -3.15, extent -2.22,-3.912 7.3,4.188

## KF2EDGK-2.54-4P [mm]
pads (4):
  rect 2x2 hole 1.1: 1(0,0)
  round 2 hole 1.1: 2(2.54,0) 3(5.08,0) 4(7.62,0)
Top Overlay:
  lines w0.254: 0.066,-3.839 0.066,-2.912 1.336,-2.912 1.336,-3.839 ; 8.067,-3.839 8.067,-2.912 9.337,-2.912 9.337,-3.839 ; 9.84,-2.404 9.078,-2.404 9.078,1.914 9.84,1.914 ; -2.22,-2.404 -2.22,-3.9 9.84,-3.9 9.84,1.914 ; -2.22,-2.404 -1.458,-2.404 -1.458,1.914 -2.22,1.914 ; -2.22,-2.404 -2.22,1.914 ; -2.22,1.914 -2.22,4.2 9.84,4.2 9.84,1.914 ; -0.762,2.549 0.889,2.549 0.889,3.438 -0.762,3.438 -0.762,2.549 ; 1.778,2.549 3.429,2.549 3.429,3.438 1.778,3.438 1.778,2.549 ; 4.318,2.549 5.969,2.549 5.969,3.438 4.318,3.438 4.318,2.549 ; 6.858,2.549 8.509,2.549 8.509,3.438 6.858,3.438 6.858,2.549
3D body "KF2EDGK-2.54-4P.STEP": height 10.15, standoff -3.15, extent -2.23,-3.923 9.83,4.177

## KF2EDGK-2.54-5P [mm]
pads (5):
  rect 2x2 hole 1.1: 1(0,0)
  round 2 hole 1.1: 2(2.54,0) 3(5.08,0) 4(7.62,0) 5(10.16,0)
Top Overlay:
  lines w0.254: 0.066,-3.839 0.066,-2.912 1.336,-2.912 1.336,-3.839 ; 10.607,-3.839 10.607,-2.912 11.877,-2.912 11.877,-3.839 ; 12.38,-2.404 11.618,-2.404 11.618,1.914 12.38,1.914 ; -2.22,-2.404 -2.22,1.914 ; -2.22,-2.404 -1.458,-2.404 -1.458,1.914 -2.22,1.914 ; -2.22,-2.404 -2.22,-3.9 12.38,-3.9 12.38,1.914 ; -2.22,1.914 -2.22,4.2 12.38,4.2 12.38,1.914 ; -0.762,2.549 0.889,2.549 0.889,3.438 -0.762,3.438 -0.762,2.549 ; 1.778,2.549 3.429,2.549 3.429,3.438 1.778,3.438 1.778,2.549 ; 4.318,2.549 5.969,2.549 5.969,3.438 4.318,3.438 4.318,2.549 ; 6.858,2.549 8.509,2.549 8.509,3.438 6.858,3.438 6.858,2.549 ; 9.398,2.549 9.398,3.438 11.049,3.438 11.049,2.549 9.398,2.549
3D body "KF2EDGK-2.54-5P.STEP": height 10.15, standoff -3.15, extent -2.23,-3.923 12.37,4.177

## KF2EDGK-2.54-6P [mm]
pads (6):
  rect 2x2 hole 1.1: 1(0,0)
  round 2 hole 1.1: 2(2.54,0) 3(5.08,0) 4(7.62,0) 5(10.16,0) 6(12.7,0)
Top Overlay:
  lines w0.254: 0.066,-3.839 0.066,-2.912 1.336,-2.912 1.336,-3.839 ; 13.147,-3.839 13.147,-2.912 14.417,-2.912 14.417,-3.839 ; 14.92,-2.404 14.158,-2.404 14.158,1.914 14.92,1.914 ; -2.22,-2.404 -2.22,1.914 ; -2.22,-2.404 -1.458,-2.404 -1.458,1.914 -2.22,1.914 ; -2.22,-2.404 -2.22,-3.9 14.92,-3.9 14.92,1.914 ; -2.22,1.914 -2.22,4.2 14.92,4.2 14.92,1.914 ; -0.762,2.549 -0.762,3.438 0.889,3.438 0.889,2.549 -0.762,2.549 ; 1.778,2.549 1.778,3.438 3.429,3.438 3.429,2.549 1.778,2.549 ; 4.318,2.549 4.318,3.438 5.969,3.438 5.969,2.549 4.318,2.549 ; 6.858,2.549 6.858,3.438 8.509,3.438 8.509,2.549 6.858,2.549 ; 9.398,2.549 11.049,2.549 11.049,3.438 9.398,3.438 9.398,2.549 ; 11.938,2.549 13.589,2.549 13.589,3.438 11.938,3.438 11.938,2.549
3D body "KF2EDGK-2.54-6P.STEP": height 10.15, standoff -3.15, extent -2.205,-3.923 14.935,4.177

## KF2EDGK-2.54-7P [mm]
pads (7):
  rect 2x2 hole 1.1: 1(0,0)
  round 2 hole 1.1: 2(2.54,0) 3(5.08,0) 4(7.62,0) 5(10.16,0) 6(12.7,0) 7(15.24,0)
Top Overlay:
  lines w0.254: 0.066,-3.839 0.066,-2.912 1.336,-2.912 1.336,-3.839 ; 15.687,-3.839 15.687,-2.912 16.957,-2.912 16.957,-3.839 ; 17.46,-2.404 16.698,-2.404 16.698,1.914 17.46,1.914 ; -2.22,-2.404 -2.22,1.914 ; -2.22,-2.404 -1.458,-2.404 -1.458,1.914 -2.22,1.914 ; -2.22,-2.404 -2.22,-3.9 17.46,-3.9 17.46,1.914 ; -2.22,1.914 -2.22,4.2 17.46,4.2 17.46,1.914 ; -0.762,2.549 0.889,2.549 0.889,3.438 -0.762,3.438 -0.762,2.549 ; 1.778,2.549 3.429,2.549 3.429,3.438 1.778,3.438 1.778,2.549 ; 4.318,2.549 5.969,2.549 5.969,3.438 4.318,3.438 4.318,2.549 ; 6.858,2.549 8.509,2.549 8.509,3.438 6.858,3.438 6.858,2.549 ; 9.398,2.549 9.398,3.438 11.049,3.438 11.049,2.549 9.398,2.549 ; 11.938,2.549 11.938,3.438 13.589,3.438 13.589,2.549 11.938,2.549 ; 14.478,2.549 14.478,3.438 16.129,3.438 16.129,2.549 14.478,2.549
3D body "KF2EDGK-2.54-7P.STEP": height 10.15, standoff -3.15, extent -2.205,-3.923 17.475,4.177

## KF2EDGK-2.54-8P [mm]
pads (8):
  rect 2x2 hole 1.1: 1(0,0)
  round 2 hole 1.1: 2(2.54,0) 3(5.08,0) 4(7.62,0) 5(10.16,0) 6(12.7,0) 7(15.24,0) 8(17.78,0)
Top Overlay:
  lines w0.254: 0.066,-3.839 0.066,-2.912 1.336,-2.912 1.336,-3.839 ; 18.227,-3.839 18.227,-2.912 19.497,-2.912 19.497,-3.839 ; 20,-2.404 19.238,-2.404 19.238,1.914 20,1.914 ; -2.22,-2.404 -2.22,-3.9 20,-3.9 20,1.914 ; -2.22,-2.404 -1.458,-2.404 -1.458,1.914 -2.22,1.914 ; -2.22,-2.404 -2.22,1.914 ; -2.22,1.914 -2.22,4.2 20,4.2 20,1.914 ; -0.762,2.549 -0.762,3.438 0.889,3.438 0.889,2.549 -0.762,2.549 ; 1.778,2.549 1.778,3.438 3.429,3.438 3.429,2.549 1.778,2.549 ; 4.318,2.549 4.318,3.438 5.969,3.438 5.969,2.549 4.318,2.549 ; 6.858,2.549 6.858,3.438 8.509,3.438 8.509,2.549 6.858,2.549 ; 9.398,2.549 11.049,2.549 11.049,3.438 9.398,3.438 9.398,2.549 ; 11.938,2.549 11.938,3.438 13.589,3.438 13.589,2.549 11.938,2.549 ; 14.478,2.549 14.478,3.438 16.129,3.438 16.129,2.549 14.478,2.549 ; 17.018,2.549 17.018,3.438 18.669,3.438 18.669,2.549 17.018,2.549
3D body "KF2EDGK-2.54-8P.STEP": height 10.15, standoff -3.15, extent -2.23,-3.898 19.99,4.202

## KF2EDGK-2.54-9P [mm]
pads (9):
  rect 2x2 hole 1.1: 1(0,0)
  round 2 hole 1.1: 2(2.54,0) 3(5.08,0) 4(7.62,0) 5(10.16,0) 6(12.7,0) 7(15.24,0) 8(17.78,0) 9(20.32,0)
Top Overlay:
  lines w0.254: 0.066,-3.839 0.066,-2.912 1.336,-2.912 1.336,-3.839 ; 20.767,-3.839 20.767,-2.912 22.037,-2.912 22.037,-3.839 ; 22.54,-2.404 21.778,-2.404 21.778,1.914 22.54,1.914 ; -2.22,-2.404 -2.22,-3.9 22.54,-3.9 22.54,1.914 ; -2.22,-2.404 -1.458,-2.404 -1.458,1.914 -2.22,1.914 ; -2.22,-2.404 -2.22,1.914 ; -2.22,1.914 -2.22,4.2 22.54,4.2 22.54,1.914 ; -0.762,2.549 -0.762,3.438 0.889,3.438 0.889,2.549 -0.762,2.549 ; 1.778,2.549 1.778,3.438 3.429,3.438 3.429,2.549 1.778,2.549 ; 4.318,2.549 4.318,3.438 5.969,3.438 5.969,2.549 4.318,2.549 ; 6.858,2.549 6.858,3.438 8.509,3.438 8.509,2.549 6.858,2.549 ; 9.398,2.549 11.049,2.549 11.049,3.438 9.398,3.438 9.398,2.549 ; 11.938,2.549 13.589,2.549 13.589,3.438 11.938,3.438 11.938,2.549 ; 14.478,2.549 16.129,2.549 16.129,3.438 14.478,3.438 14.478,2.549 ; 17.018,2.549 18.669,2.549 18.669,3.438 17.018,3.438 17.018,2.549 ; 19.558,2.549 21.209,2.549 21.209,3.438 19.558,3.438 19.558,2.549
3D body "KF2EDGK-2.54-9P.STEP": height 10.15, standoff -3.15, extent -2.23,-3.898 22.53,4.202